# EAGLE library part 2516- (library Simplex-Connectors)
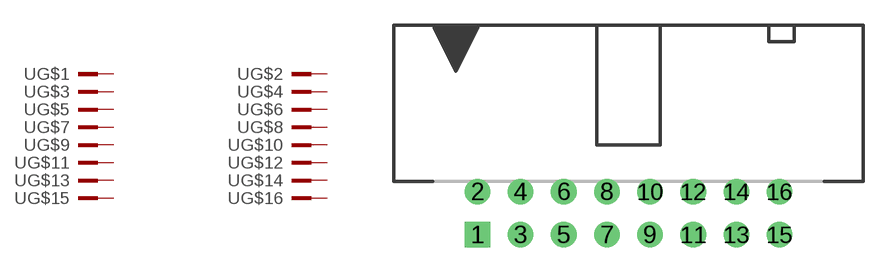
[diagram p9: symbol with the pads of PAK100/2500-5-16; footprint PAK100/2500-5-16]

Designator prefix -; gates G$1=PIN G$2=PIN G$3=PIN G$4=PIN G$5=PIN G$6=PIN G$7=PIN G$8=PIN G$9=PIN G$10=PIN G$11=PIN G$12=PIN G$13=PIN G$14=PIN G$15=PIN G$16=PIN

## 2516-  [PAK100/2500-5-16]
1  G$1:KL  pas
2  G$2:KL  pas
3  G$3:KL  pas
4  G$4:KL  pas
5  G$5:KL  pas
6  G$6:KL  pas
7  G$7:KL  pas
8  G$8:KL  pas
9  G$9:KL  pas
10  G$10:KL  pas
11  G$11:KL  pas
12  G$12:KL  pas
13  G$13:KL  pas
14  G$14:KL  pas
15  G$15:KL  pas
16  G$16:KL  pas

## Footprint PAK100/2500-5-16 (pad centres in mm)
drill 1 pad 1.422 square: 1 -8.89,-7.62
drill 1 pad 1.422: 2 -8.89,-5.08; 3 -6.35,-7.62; 4 -6.35,-5.08; 5 -3.81,-7.62; 6 -3.81,-5.08; 7 -1.27,-7.62; 8 -1.27,-5.08; 9 1.27,-7.62; 10 1.27,-5.08; 11 3.81,-7.62; 12 3.81,-5.08; 13 6.35,-7.62; 14 6.35,-5.08; 15 8.89,-7.62; 16 8.89,-5.08